# Altium schematic symbol library AltiumDesigner.SchLib: 2 symbols
Pins are listed as number, name and electrical type; pins without a type are passive.

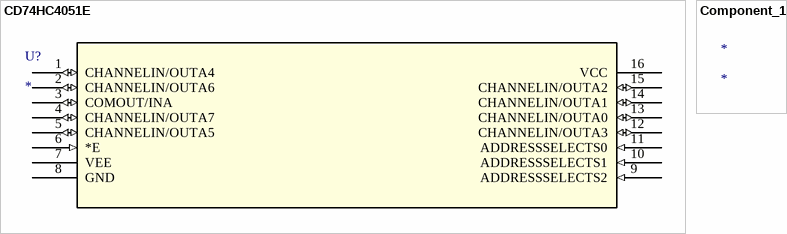
[diagram p0: symbols CD74HC4051E to Component_1]

## CD74HC4051E
designator U?
Imported; Manufacturer_Part_Number: CD74HC4051E; Vendor: Texas Instruments; Section: Unknown; C: Copyright (C) 2015 Accelerated Designs. All rights reserved; Family: Unknown; Manufacturer_Name: Texas Instruments; Copyright: Copyright (C) 2015 Accelerated Designs. All rights reserved; RS_Part_Number: 526694; Value: Value; Type: Type; RefDes: RefDes
footprint N16
pins: 1 CHANNELIN/OUTA4 (io), 2 CHANNELIN/OUTA6 (io), 3 COMOUT/INA (io), 4 CHANNELIN/OUTA7 (io), 5 CHANNELIN/OUTA5 (io), 6 *E (in), 7 VEE (power), 8 GND (power), 9 ADDRESSSELECTS2 (in), 10 ADDRESSSELECTS1 (in), 11 ADDRESSSELECTS0 (in), 12 CHANNELIN/OUTA3 (io), 13 CHANNELIN/OUTA0 (io), 14 CHANNELIN/OUTA1 (io), 15 CHANNELIN/OUTA2 (io), 16 VCC (power)

## Component_1
designator *